# Altium schematic symbol library SCH - POWER - LINEAR VREG - TI LP5907-1P2DBV.SchLib: 1 symbol
Pins are listed as number, name and electrical type; pins without a type are passive.

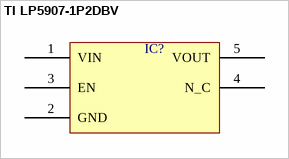
[diagram p0: symbol TI LP5907-1P2DBV]

## TI LP5907-1P2DBV
designator IC?  (value not drawn)
pins: 1 VIN, 2 GND, 3 EN, 4 N_C, 5 VOUT